# EAGLE library part M15VP (library con-subd)
SUB-D
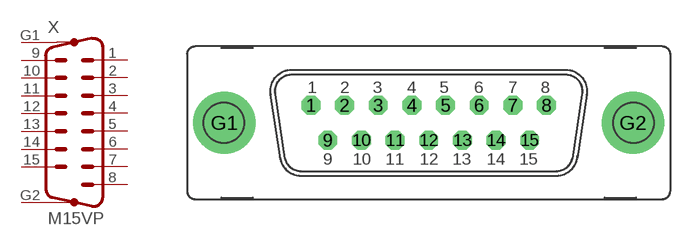
[diagram p12: symbol with the pads of M15VP; footprint M15VP]

Designator prefix X

## M15VP (OC_FARNELL: unknown; OC_NEWARK: unknown)  [M15VP]
1  1  pas
2  2  pas
3  3  pas
4  4  pas
5  5  pas
6  6  pas
7  7  pas
8  8  pas
9  9  pas
10  10  pas
11  11  pas
12  12  pas
13  13  pas
14  14  pas
15  15  pas
G1  G1  pas
G2  G2  pas

## Footprint M15VP (pad centres in mm)
SUB-D
drill 1.016 octagon: 1 -9.601,1.422; 2 -6.858,1.422; 3 -4.115,1.422; 4 -1.372,1.422; 5 1.372,1.422; 6 4.115,1.422; 7 6.858,1.422; 8 9.601,1.422; 9 -8.23,-1.422; 10 -5.486,-1.422; 11 -2.743,-1.422; 12 0,-1.422; 13 2.743,-1.422; 14 5.486,-1.422; 15 8.23,-1.422
drill 3.302 pad 5.08: G1 -16.662,0; G2 16.662,0